# Altium footprint library BNO080.PcbLib: 1 footprints
Each footprint in its own frame and in the unit in brackets; x right, y up, seen from the top. Pads: shape width x height; smd on the part's side, far side on the other; paste and mask are expansions set on the pad; w line width, h text height; cw(c..) or ccw(c..) is an arc to the next point about the centre after c.
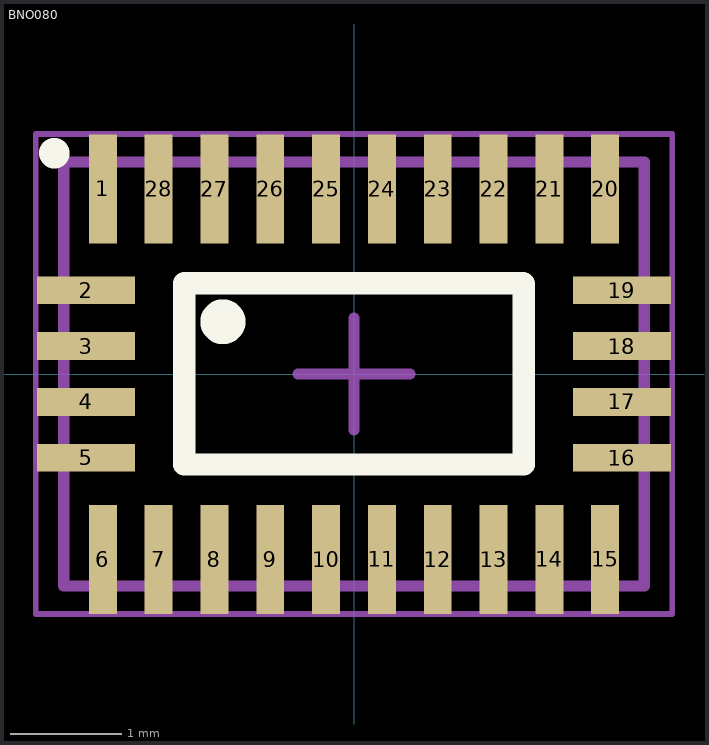
[diagram p0: the footprint, top view; thin cyan lines are the x and y axes]

## BNO080 [mm]
pads (28):
  rect 0.25x0.975 smd: 1(-2.25,1.658) 6(-2.25,-1.66) 7(-1.75,-1.66) 8(-1.25,-1.66) 9(-0.75,-1.66) 10(-0.25,-1.66) 11(0.25,-1.66) 12(0.75,-1.66) 13(1.25,-1.66) 14(1.75,-1.66) 15(2.25,-1.66) 20(2.25,1.658) 21(1.75,1.658) 22(1.25,1.658) 23(0.75,1.658) 24(0.25,1.658) 25(-0.25,1.658) 26(-0.75,1.658) 27(-1.25,1.658) 28(-1.75,1.658)
  rect 0.875x0.25 smd: 2(-2.4,0.75) 3(-2.4,0.25) 4(-2.4,-0.25) 5(-2.4,-0.75) 16(2.4,-0.75) 17(2.4,-0.25) 18(2.4,0.25) 19(2.4,0.75)
Top Overlay:
  circle w0.25: c-2.684,1.978 r0.011
  circle w0.254: c-1.174,0.468 r0.074
  lines w0.2: 1.515,0.814 -1.52,0.814 -1.52,-0.811 1.52,-0.811 1.52,0.809
Assembly Top:
  lines w0.1: -2.6,-1.9 -2.6,1.9 2.6,1.9 2.6,-1.9 -2.6,-1.9
Courtyard Top:
  lines w0.05: -2.85,-2.15 -2.85,2.15 2.85,2.15 2.85,-2.15 -2.85,-2.15
  lines w0.1: -0.5,0 0.5,0 ; 0,-0.5 0,0.5
3D body: height 1.18, standoff 0.1, extent -2.6,-1.9 2.6,1.9